# Altium footprint library 无刷驱动-CYT4BB7-V1.0.1.PcbLib: 34 footprints (part 1 of 3)
Each footprint in its own frame and in the unit in brackets; x right, y up, seen from the top. Pads: shape width x height; smd on the part's side, far side on the other; paste and mask are expansions set on the pad; w line width, h text height; cw(c..) or ccw(c..) is an arc to the next point about the centre after c.
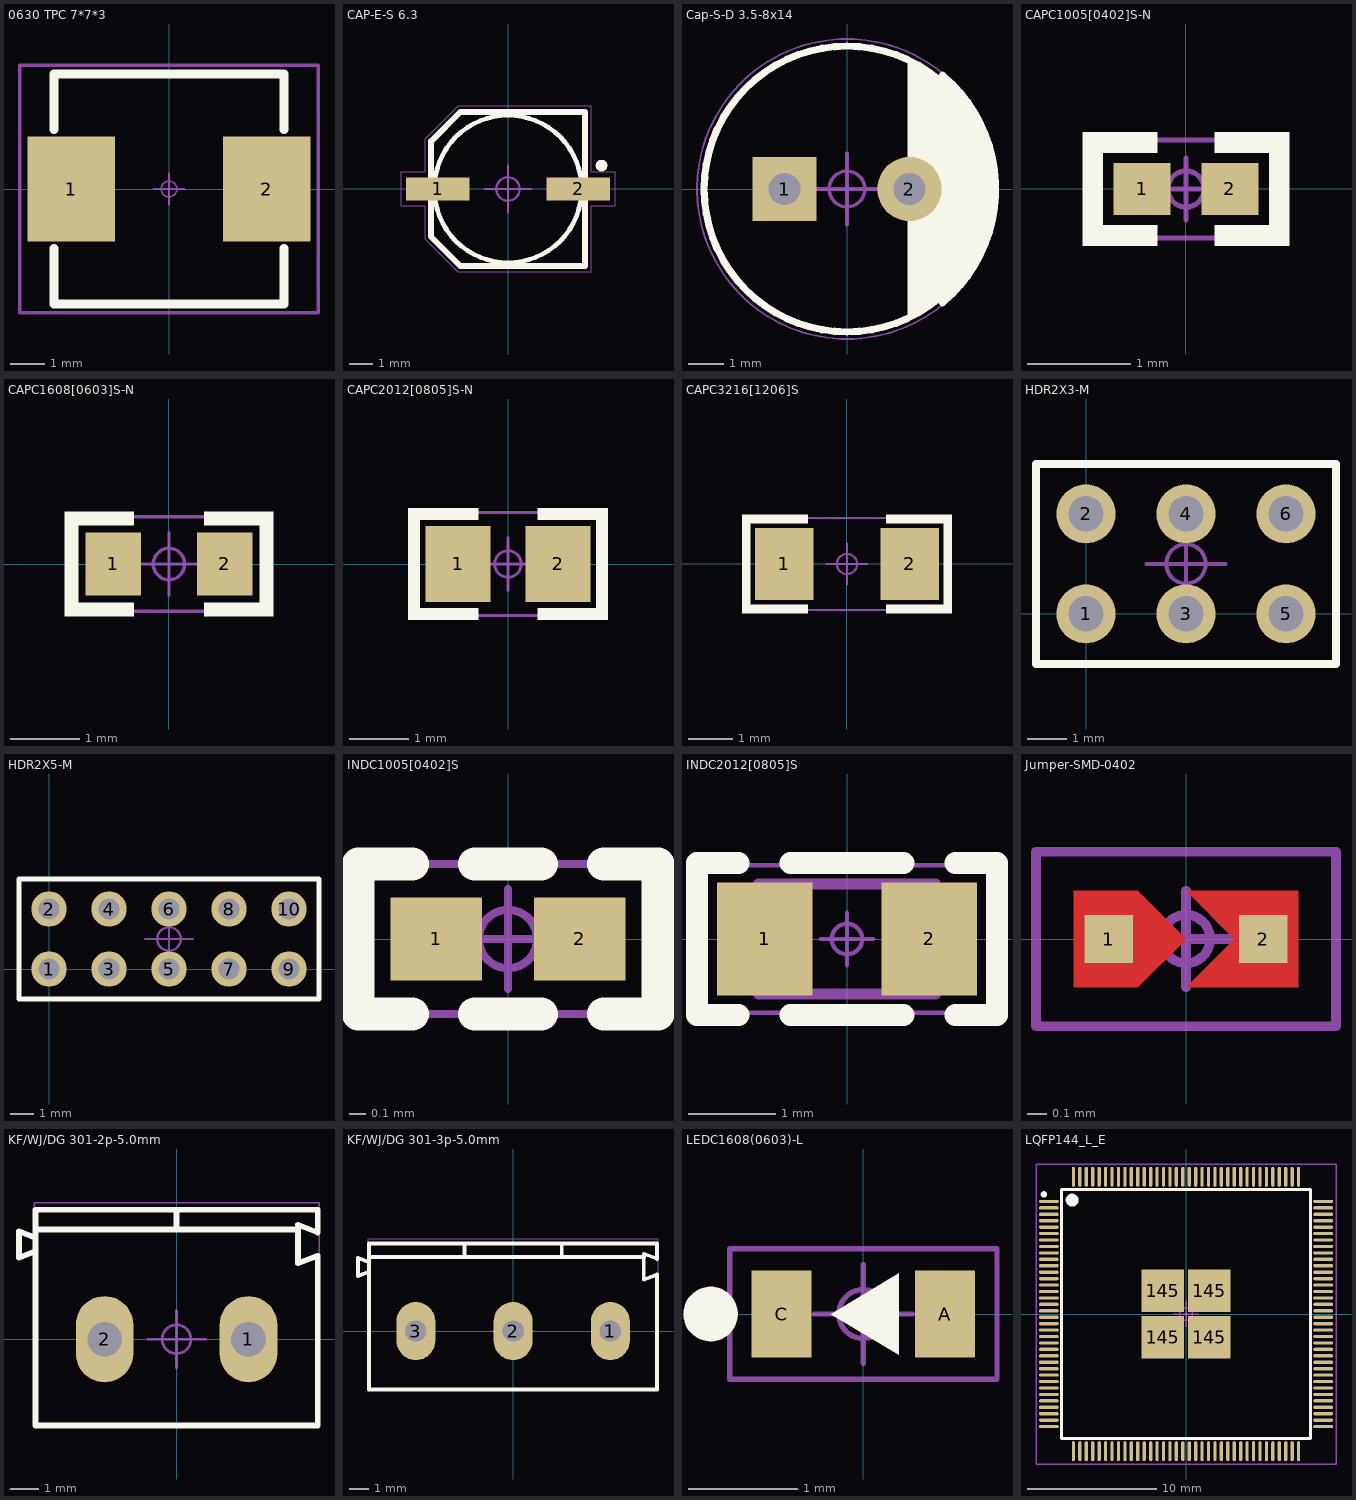
[diagram p0: the footprints below, top view; thin cyan lines are the x and y axes]

## 0630 TPC 7*7*3 [mm] "12mmx12mmx6.5mm 一体成型功率电感"
height 6.5
pads (2):
  rect 2.5x3 smd: 1(-2.8,0) 2(2.8,0)
Top Overlay:
  lines w0.254: -3.3,-1.7 -3.3,-3.3 3.3,-3.3 3.3,-1.7 ; -3.3,1.7 -3.3,3.3 3.3,3.3 3.3,1.7
Top Designator:
  text ".Designator" at -2.25,-0.226 h1
Top Component Outline:
  lines w0.1: -4.275,-3.55 -4.275,3.55 4.275,3.55 4.275,-3.55 -4.275,-3.55
Top Component Center:
  circle w0.05: c0,0 r0.225
  lines w0.05: -0.45,0 0.45,0 ; 0,-0.45 0,0.45
3D body: height 3, standoff 0, extent -3.3,-3.3 3.3,3.3

## CAP-E-S 6.3 [mm] "贴片 铝电解电容 6.3mm"
height 5.5
pads (2):
  rect 2.7x1 smd: 1(-3,0) 2(3,0)
Top Overlay:
  circle w0.25: c4,1 r0.125
  circle w0.2: c0,0 r3.15
  lines w0.254: -3.3,2.032 -3.3,-2.032 -2.032,-3.3 3.3,-3.3 3.3,3.3 -2.032,3.3 -3.287,2.045
Top Designator:
  text ".Designator" at -2.25,-0.226 h1
Top Component Outline:
  region: -3.525,0.7 -3.525,0.75 -4.6,0.75 -4.6,0.7
  region: -3.525,2.15 -3.575,2.15 -3.575,0.7 -3.525,0.7
  rectangle: -4.6,-0.75 -4.55,0.75
  region: -3.525,-0.75 -3.525,-0.7 -4.6,-0.7 -4.6,-0.75
  rectangle: -3.575,-2.15 -3.525,-0.7
  region: 3.575,3.525 3.575,3.575 -2.15,3.575 -2.15,3.525
  region: -2.115,3.54 -2.15,3.575 -3.575,2.15 -3.54,2.115
  region: -2.15,-3.525 -2.15,-3.575 3.575,-3.575 3.575,-3.525
  region: -3.54,-2.115 -3.575,-2.15 -2.15,-3.575 -2.115,-3.54
  region: 3.575,3.575 3.525,3.575 3.525,0.7 3.575,0.7
  region: 3.525,0.75 3.525,0.7 4.6,0.7 4.6,0.75
  region: 4.6,0.75 4.55,0.75 4.55,-0.75 4.6,-0.75
  region: 4.6,-0.75 4.6,-0.7 3.525,-0.7 3.525,-0.75
  region: 3.575,-0.7 3.525,-0.7 3.525,-3.575 3.575,-3.575
Top Component Center:
  circle w0.1: c0,0 r0.5
  lines w0.1: -1,0 1,0 ; 0,-1 0,1
3D body "SL-E.step": height 5.2, standoff 0, extent -3.5,-3.302 3.5,3.298

## Cap-S-D 3.5-8x14 [mm] "固态直插 3.5mm间距 8x14mm"
height 1.6
pads (2):
  rect 1.8x1.8 hole 0.9: 1(-1.75,0)
  round 1.8 hole 0.9: 2(1.75,0)
Top Overlay:
  circle w0.2: c0,0 r4
  region: 1.7,3.6 1.7,-3.6 2.6,-3 3.4,-2.1 3.9,-1 4,0 3.9,1 3.4,2.1 2.6,3
  lines w0.2: 2.675,-3.188 ccw(c0,0) 2.675,3.188
Top Designator:
  text ".Designator" at -2.25,-0.226 h1
Top Component Outline:
  circle w0.05: c0,0 r4.2
Top Component Center:
  circle w0.1: c0,0 r0.5
  lines w0.1: -1,0 1,0 ; 0,-1 0,1
3D body "CAP-S-D 3.5 8x11.5 Red.STEP": height 11.5, standoff -3.5, extent -4,-4 4,4

## CAPC1005[0402]S-N [mm] "0402贴片电容 有丝印 2脚 1.00x0.50mm IPC中密度"
height 0.6
pads (2):
  rect 0.55x0.5 smd: 1(-0.425,0) 2(0.425,0)
Top Overlay:
  region: 1,0.55 0.275,0.55 0.275,0.35 1,0.35
  region: 1,-0.548 1,0.552 0.8,0.552 0.8,-0.548
  region: 1,-0.35 0.275,-0.35 0.275,-0.55 1,-0.55
  rectangle: -1,-0.55 -0.275,-0.35
  region: -1,0.552 -1,-0.548 -0.8,-0.548 -0.8,0.552
  rectangle: -1,0.35 -0.275,0.55
Top Designator:
  text ".Designator" at -2.25,-0.226 h1
Top Component Outline:
  region: -0.95,-0.45 -0.95,-0.5 0.95,-0.5 0.95,-0.45
  region: 0.95,0.5 0.9,0.5 0.9,-0.5 0.95,-0.5
  region: 0.95,0.45 0.95,0.5 -0.95,0.5 -0.95,0.45
  rectangle: -0.95,-0.5 -0.9,0.5
Top Component Center:
  circle w0.05: c0,0 r0.175
  lines w0.05: -0.3,0 0.3,0 ; 0,-0.3 0,0.3
3D body "Capacitor 0402.SLDPRT": height 0.5, standoff 0, extent -0.5,-0.25 0.5,0.25

## CAPC1608[0603]S-N [mm] "0603贴片电容 有丝印 2脚 1.60x0.80mm IPC中密度"
height 0.85
pads (2):
  rect 0.8x0.9 smd: 1(-0.8,0) 2(0.8,0)
Top Overlay:
  region: 1.5,-0.55 0.5,-0.55 0.5,-0.75 1.5,-0.75
  region: 1.5,-0.751 1.5,0.749 1.3,0.749 1.3,-0.751
  region: 1.5,0.75 0.5,0.75 0.5,0.55 1.5,0.55
  rectangle: -1.5,0.55 -0.5,0.75
  region: -1.5,0.749 -1.5,-0.751 -1.3,-0.751 -1.3,0.749
  rectangle: -1.5,-0.75 -0.5,-0.55
Top Designator:
  text ".Designator" at -2.25,-0.226 h1
Top Component Outline:
  region: -1.45,-0.65 -1.45,-0.7 1.45,-0.7 1.45,-0.65
  region: 1.45,0.7 1.4,0.7 1.4,-0.7 1.45,-0.7
  region: 1.45,0.65 1.45,0.7 -1.45,0.7 -1.45,0.65
  rectangle: -1.45,-0.7 -1.4,0.7
Top Component Center:
  circle w0.05: c0,0 r0.225
  lines w0.05: -0.45,0 0.45,0 ; 0,-0.45 0,0.45
3D body: height 0.79, standoff 0, extent -0.45,-0.406 0.45,0.406
3D body: height 0.79, standoff 0, extent 0.45,-0.406 0.8,0.407
3D body: height 0.79, standoff 0, extent -0.8,-0.406 -0.45,0.406

## CAPC2012[0805]S-N [mm] "0805贴片电容 有丝印 2脚 2.00x1.20mm IPC中密度"
height 1.1
pads (2):
  rect 1.1x1.3 smd: 1(-0.85,0) 2(0.85,0)
Top Overlay:
  rectangle: -1.7,0.75 -0.5,0.95
  region: -1.7,0.95 -1.7,-0.95 -1.5,-0.95 -1.5,0.95
  rectangle: -1.7,-0.95 -0.5,-0.75
  region: 1.698,-0.75 0.498,-0.75 0.498,-0.95 1.698,-0.95
  region: 1.7,-0.948 1.7,0.952 1.5,0.952 1.5,-0.948
  region: 1.698,0.95 0.498,0.95 0.498,0.75 1.698,0.75
Top Designator:
  text ".Designator" at -2.25,-0.226 h1
Top Component Outline:
  region: -1.65,-0.85 -1.65,-0.9 1.65,-0.9 1.65,-0.85
  region: 1.65,0.875 1.6,0.875 1.6,-0.9 1.65,-0.9
  region: 1.65,0.85 1.65,0.9 -1.65,0.9 -1.65,0.85
  rectangle: -1.65,-0.9 -1.6,0.9
Top Component Center:
  circle w0.05: c0,0 r0.225
  lines w0.05: -0.45,0 0.45,0 ; 0,-0.45 0,0.45
3D body "capacitor_rnd1500805b106k6r3.stp": height 1.25, standoff 0, extent -1,-0.625 1,0.625

## CAPC3216[1206]S [mm] "1206贴片电容 有丝印 2脚 3.20x1.60mm IPC中密度"
height 1.35
pads (2):
  rect 1.3x1.6 smd: 1(-1.4,0) 2(1.4,0)
Top Overlay:
  region: 2.346,-0.906 0.871,-0.906 0.871,-1.106 2.346,-1.106
  rectangle: -2.35,-1.1 -0.875,-0.9
  region: 2.346,1.106 0.871,1.106 0.871,0.906 2.346,0.906
  rectangle: -2.35,0.9 -0.875,1.1
  region: 2.35,-1.1 2.35,1.1 2.15,1.1 2.15,-1.1
  region: -2.35,1.1 -2.35,-1.1 -2.15,-1.1 -2.15,1.1
Top Designator:
  text ".Designator" at -2.25,-0.226 h1
Top Component Outline:
  rectangle: -2.3,-1.05 -2.25,1.05
  region: 2.3,1 2.3,1.05 -2.3,1.05 -2.3,1
  region: 2.3,1.05 2.25,1.05 2.25,-1.05 2.3,-1.05
  region: -2.3,-1 -2.3,-1.05 2.3,-1.05 2.3,-1
Top Component Center:
  circle w0.05: c0,0 r0.225
  lines w0.05: -0.45,0 0.45,0 ; 0,-0.45 0,0.45
3D body "C 1206.STEP": height 1.21, standoff -0.01, extent -1.6,-0.81 1.6,0.81

## HDR2X3-M [mm] "2x3pin, 2.54mm间距, 直插, 直排针"
height 1.6
pads (6):
  round 1.5 hole 0.9: 1(0,0) 2(0,2.54) 3(2.54,0) 4(2.54,2.54) 5(5.08,0) 6(5.08,2.54)
Top Overlay:
  lines w0.2: 1.482,-1.27 6.35,-1.27 ; 6.35,-1.27 -1.27,-1.27 -1.27,3.81 6.35,3.81 6.35,-1.27
Top Designator:
  text ".Designator" at 0.29,1.044 h1
Top Component Outline:
  lines w0.1: -1.27,-1.275 -1.27,3.81 6.35,3.81 6.35,-1.275 -1.27,-1.275
Top Component Center:
  circle w0.1: c2.54,1.27 r0.5
  lines w0.1: 1.54,1.27 3.54,1.27 ; 2.54,0.27 2.54,2.27
3D body "HDR2x3.STEP": height 8.54, standoff -3, extent -1.27,-1.27 6.35,3.81

## HDR2X5-M [mm] "2x5pin, 2.54mm间距, 直插, 直排针"
height 1.6
pads (10):
  round 1.5 hole 0.9: 1(0,0) 2(0,2.54) 3(2.54,0) 4(2.54,2.54) 5(5.08,0) 6(5.08,2.54) 7(7.62,0) 8(7.62,2.54) 9(10.16,0) 10(10.16,2.54)
Top Overlay:
  lines w0.2: -1.27,-1.27 -1.27,3.81 11.43,3.81 11.43,-1.27 -1.27,-1.27
Top Designator:
  text ".Designator" at 2.83,1.044 h1
Top Component Outline:
  lines w0.1: -1.27,-1.27 -1.27,3.81 11.43,3.81 11.43,-1.27 -1.27,-1.27
Top Component Center:
  circle w0.1: c5.08,1.27 r0.5
  lines w0.1: 4.08,1.27 6.08,1.27 ; 5.08,0.27 5.08,2.27
3D body "HDR2x5.STEP": height 8.54, standoff -3, extent -1.27,-1.27 11.43,3.81

## INDC1005[0402]S [mm] "Chip Inductor, 2-Leads, Body 1.00x0.50mm, IPC Medium Density"
height 0.6
pads (2):
  rect 0.55x0.5 smd: 1(-0.43,0) 2(0.43,0)
Top Overlay:
  lines w0.2: -0.575,-0.45 -0.9,-0.45 -0.9,0.45 -0.575,0.45 ; -0.2,-0.45 0.2,-0.45 ; -0.2,0.45 0.2,0.45 ; 0.575,-0.45 0.9,-0.45 0.9,0.45 0.575,0.45
Top Designator:
  text ".Designator" at -2.25,-0.226 h1
Top Component Outline:
  lines w0.05: -0.9,-0.45 -0.9,0.45 0.9,0.45 0.9,-0.45 -0.9,-0.45
Top Component Center:
  circle w0.05: c0,0 r0.175
  lines w0.05: -0.3,0 0.3,0 ; 0,-0.3 0,0.3
3D body: height 0.49, standoff 0, extent -0.3,-0.25 0.3,0.25
3D body: height 0.5, standoff 0, extent 0.231,-0.25 0.5,0.25
3D body: height 0.5, standoff 0, extent -0.5,-0.25 -0.231,0.25

## INDC2012[0805]S [mm] "Not in IPC, Chip Inductor,Silkscreen Border, 2-Leads, Body 2.00x0.90mm, IPC Medium Density"
height 1.2
pads (2):
  rect 1.1x1.3 smd: 1(-0.948,0) 2(0.948,0)
Top Overlay:
  lines w0.25: -1.245,-0.875 -1.725,-0.875 -1.725,0.875 -1.245,0.875 ; -0.65,-0.875 0.65,-0.875 ; -0.65,0.875 0.65,0.875 ; 1.245,-0.875 1.725,-0.875 1.725,0.875 1.245,0.875
Top Designator:
  text ".Designator" at -2.25,-0.226 h1
Mechanical 13:
  lines w0.127: -1.016,-0.635 1.016,-0.635 1.016,0.635 -1.016,0.635 -1.016,-0.635
Top Component Outline:
  lines w0.05: -1.7,-0.85 -1.7,0.85 1.7,0.85 1.7,-0.85 -1.7,-0.85
Top Component Center:
  circle w0.05: c0,0 r0.175
  lines w0.05: -0.3,0 0.3,0 ; 0,-0.3 0,0.3
3D body: height 0.8, standoff 0, extent -0.61,-0.635 0.61,0.635
3D body: height 0.8, standoff 0, extent -1.016,-0.635 -0.61,0.635
3D body: height 0.8, standoff 0, extent 0.61,-0.635 1.016,0.635

## Jumper-SMD-0402 [mm] "0402 表贴式跳线 无丝印"
height 1.6
pads (2):
  rect 0.25x0.25 smd mask+0: 1(-0.4,0) 2(0.4,0)
Top Layer:
  region: -0.58,-0.25 -0.25,-0.25 0,0 -0.25,0.25 -0.58,0.25 -0.58,0.251
  region: 0,-0.25 0.25,0 0,0.25 0.58,0.25 0.58,-0.25 0.58,-0.251
Top Solder:
  region: -0.58,-0.25 -0.25,-0.25 0,0 -0.25,0.25 -0.58,0.25 -0.58,0.251
  region: 0,-0.25 0.25,0 0,0.25 0.58,0.25 0.58,-0.25 0.58,-0.251
Top Designator:
  text ".Designator" at -2.25,-0.226 h1
Top Component Outline:
  lines w0.05: -0.775,-0.45 -0.775,0.45 0.775,0.45 0.775,-0.45 -0.775,-0.45
Top Component Center:
  circle w0.05: c0,0 r0.125
  lines w0.05: -0.25,0 0.25,0 ; 0,-0.25 0,0.25
3D body "R0402.STEP": height 0.35, standoff 0, extent -0.5,-0.25 0.5,0.25

## KF/WJ/DG 301-2p-5.0mm [mm] "2P 5mm间距 接线端子"
height 1.6
pads (2):
  oval 2x3 hole 1.2: 1(2.5,0) 2(-2.5,0)
Top Overlay:
  lines w0.2: -4.905,3.056 -5.475,2.833 -5.475,3.753 -4.903,3.53 ; -4.905,3.095 -4.905,3.81 -4.905,4.5 ; 4.219,3.81 4.219,2.636 4.905,2.904 4.905,-2.997 ; 4.219,3.976 4.905,3.708 4.905,4.5
  lines w0.203: -4.905,3.056 -4.905,-2.997 4.905,-2.997 ; -4.905,3.81 4.219,3.81 ; -4.905,4.5 4.905,4.5 ; 0,3.81 0,4.445
Top Designator:
  text ".Designator" at -2.25,-0.226 h1
Top Component Outline:
  lines w0.05: -4.95,-2.971 4.95,-2.971 4.95,4.75 -4.95,4.75 -4.95,-2.971
Top Component Center:
  circle w0.1: c0,0 r0.5
  lines w0.1: -1,0 1,0 ; 0,-1 0,1
3D body "Terminal-Screw-3A-2way.step": height 10.1, standoff -2.9, extent -5.6,-3 5,4.6

## KF/WJ/DG 301-3p-5.0mm [mm] "3P 5mm间距 接线端子"
height 1.6
pads (3):
  oval 2x3 hole 1.1: 1(5,0) 2(0,0) 3(-5,0)
Top Overlay:
  lines w0.2: -7.405,3.056 -7.975,2.833 -7.975,3.753 -7.403,3.53 ; -7.405,3.095 -7.405,3.81 -7.405,4.5 ; 7.405,-2.997 7.405,2.904 6.719,2.636 6.719,3.976 7.405,3.708 7.405,4.5
  lines w0.203: -7.405,3.056 -7.405,-2.997 7.405,-2.997 ; -7.405,3.81 6.719,3.81 ; -7.405,4.5 7.405,4.5 ; -2.5,3.81 -2.5,4.445 ; 2.5,3.81 2.5,4.445
Top Designator:
  text ".Designator" at -2.522,-0.241 h1
Top Component Outline:
  lines w0.05: -7.45,-2.971 -7.45,4.75 7.45,4.75 7.45,-2.971 -7.45,-2.971
Top Component Center:
  circle w0.1: c0,0 r0.5
  lines w0.1: -1,0 1,0 ; 0,-1 0,1
3D body "KF301-3.STEP": height 10, standoff -3, extent -8.1,-3 7.5,4.6

## LEDC1608(0603)-L [mm] "LED,Chip;1.60mm L X 0.80mm W X 0.80mm H"
height 0.8
pads (2):
  rect 0.55x0.8 smd: A(0.75,0) C(-0.75,0)
Top Overlay:
  circle w0.25: c-1.4,0 r0.125
  region: -0.3,0 0.325,0.375 0.325,-0.375
Top Designator:
  text ".Designator" at -2.45,-0.226 h1
Top Component Outline:
  lines w0.05: -1.225,-0.6 -1.225,0.6 1.225,0.6 1.225,-0.6 -1.225,-0.6
Top Component Center:
  circle w0.05: c0,0 r0.225
  lines w0.05: -0.45,0 0.45,0 ; 0,-0.45 0,0.45
3D body: height 0.64, standoff 0, extent -0.559,-0.4 0.559,0.4
3D body "0603 (1608) LED Base (Separate Lens).STEP": height 0.64, standoff 0, extent -0.8,-0.4 0.8,0.4

## LQFP144_L_E [mm] "QFP,0.50mm pitch,square;144 pin,IPC High Density,20.00mm L X 20.00mm W X 3.40mm H body"
pads (148):
  oval 1.55x0.254 smd: 1(-10.663,8.75) 2(-10.663,8.25) 3(-10.663,7.75) 4(-10.663,7.25) 5(-10.663,6.75) 6(-10.663,6.25) 7(-10.663,5.75) 8(-10.663,5.25) 9(-10.663,4.75) 10(-10.663,4.25) 11(-10.663,3.75) 12(-10.663,3.25) 13(-10.663,2.75) 14(-10.663,2.25) 15(-10.663,1.75) 16(-10.663,1.25) 17(-10.663,0.75) 18(-10.663,0.25) 19(-10.663,-0.25) 20(-10.663,-0.75) 21(-10.663,-1.25) 22(-10.663,-1.75) 23(-10.663,-2.25) 24(-10.663,-2.75) 25(-10.663,-3.25) 26(-10.663,-3.75) 27(-10.663,-4.25) 28(-10.663,-4.75) 29(-10.663,-5.25) 30(-10.663,-5.75) 31(-10.663,-6.25) 32(-10.663,-6.75) 33(-10.663,-7.25) 34(-10.663,-7.75) 35(-10.663,-8.25) 36(-10.663,-8.75) 73(10.663,-8.75) 74(10.663,-8.25) 75(10.663,-7.75) 76(10.663,-7.25) 77(10.663,-6.75) 78(10.663,-6.25) 79(10.663,-5.75) 80(10.663,-5.25) 81(10.663,-4.75) 82(10.663,-4.25) 83(10.663,-3.75) 84(10.663,-3.25) 85(10.663,-2.75) 86(10.663,-2.25) 87(10.663,-1.75) 88(10.663,-1.25) 89(10.663,-0.75) 90(10.663,-0.25) 91(10.663,0.25) 92(10.663,0.75) 93(10.663,1.25) 94(10.663,1.75) 95(10.663,2.25) 96(10.663,2.75) 97(10.663,3.25) 98(10.663,3.75) 99(10.663,4.25) 100(10.663,4.75) 101(10.663,5.25) 102(10.663,5.75) 103(10.663,6.25) 104(10.663,6.75) 105(10.663,7.25) 106(10.663,7.75) 107(10.663,8.25) 108(10.663,8.75)
  oval 0.254x1.55 smd: 37(-8.75,-10.663) 38(-8.25,-10.663) 39(-7.75,-10.663) 40(-7.25,-10.663) 41(-6.75,-10.663) 42(-6.25,-10.663) 43(-5.75,-10.663) 44(-5.25,-10.663) 45(-4.75,-10.663) 46(-4.25,-10.663) 47(-3.75,-10.663) 48(-3.25,-10.663) 49(-2.75,-10.663) 50(-2.25,-10.663) 51(-1.75,-10.663) 52(-1.25,-10.663) 53(-0.75,-10.663) 54(-0.25,-10.663) 55(0.25,-10.663) 56(0.75,-10.663) 57(1.25,-10.663) 58(1.75,-10.663) 59(2.25,-10.663) 60(2.75,-10.663) 61(3.25,-10.663) 62(3.75,-10.663) 63(4.25,-10.663) 64(4.75,-10.663) 65(5.25,-10.663) 66(5.75,-10.663) 67(6.25,-10.663) 68(6.75,-10.663) 69(7.25,-10.663) 70(7.75,-10.663) 71(8.25,-10.663) 72(8.75,-10.663) 109(8.75,10.663) 110(8.25,10.663) 111(7.75,10.663) 112(7.25,10.663) 113(6.75,10.663) 114(6.25,10.663) 115(5.75,10.663) 116(5.25,10.663) 117(4.75,10.663) 118(4.25,10.663) 119(3.75,10.663) 120(3.25,10.663) 121(2.75,10.663) 122(2.25,10.663) 123(1.75,10.663) 124(1.25,10.663) 125(0.75,10.663) 126(0.25,10.663) 127(-0.25,10.663) 128(-0.75,10.663) 129(-1.25,10.663) 130(-1.75,10.663) 131(-2.25,10.663) 132(-2.75,10.663) 133(-3.25,10.663) 134(-3.75,10.663) 135(-4.25,10.663) 136(-4.75,10.663) 137(-5.25,10.663) 138(-5.75,10.663) 139(-6.25,10.663) 140(-6.75,10.663) 141(-7.25,10.663) 142(-7.75,10.663) 143(-8.25,10.663) 144(-8.75,10.663)
  rect 3.3x3.3 smd: 145(-1.8,-1.8) 145(-1.8,1.8) 145(1.8,-1.8) 145(1.8,1.8)
Top Overlay:
  circle w0.5: c-8.85,8.85 r0.25
  circle w0.25: c-11.049,9.296 r0.125
  lines w0.2: -9.677,-9.677 -9.677,9.677 9.677,9.677 9.677,-9.677 -9.677,-9.677
Top Designator:
  text ".Designator" at -2.25,-0.226 h1
Top Component Outline:
  lines w0.1: -11.659,-11.659 -11.659,11.659 11.659,11.659 11.659,-11.659 -11.659,-11.659
Top Component Center:
  circle w0.1: c0,0 r0.5
  lines w0.1: -1,0 1,0 ; 0,-1 0,1
3D body "PG-TQFP-144.STEP": height 1.6, standoff 0, extent -11,-11 11,11